# EAGLE library part G4-CHG-SOCKET (library greg)
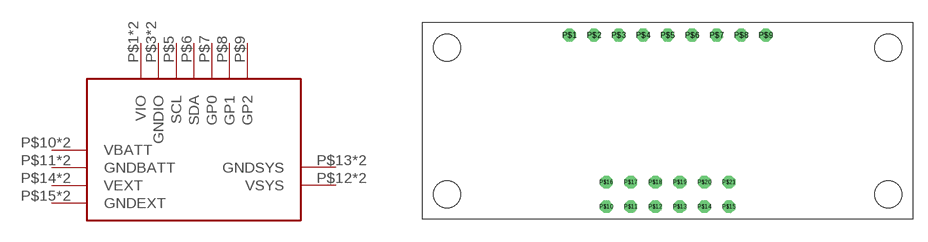
[diagram p9: symbol with the pads of G4-CHG-SOCKET; footprint G4-CHG-SOCKET]

Designator prefix -

## G4-CHG-SOCKETSTD  [G4-CHG-SOCKET]
P$1  VIO  sup
P$2  VIO  sup
P$3  GNDIO  sup
P$4  GNDIO  sup
P$5  SCL
P$6  SDA
P$7  GP0
P$8  GP1
P$9  GP2
P$10  VBATT  sup
P$11  GNDBATT  sup
P$12  VSYS  sup
P$13  GNDSYS  sup
P$14  VEXT  sup
P$15  GNDEXT  sup
P$16  VBATT  sup
P$17  GNDBATT  sup
P$18  VSYS  sup
P$19  GNDSYS  sup
P$20  VEXT  sup
P$21  GNDEXT  sup

## Footprint G4-CHG-SOCKET (pad centres in mm)
drill 0.8 octagon: P$1 -10.16,8.89; P$2 -7.62,8.89; P$3 -5.08,8.89; P$4 -2.54,8.89; P$5 0,8.89; P$6 2.54,8.89; P$7 5.08,8.89; P$8 7.62,8.89; P$9 10.16,8.89; P$10 -6.35,-8.89; P$11 -3.81,-8.89; P$12 -1.27,-8.89; P$13 1.27,-8.89; P$14 3.81,-8.89; P$15 6.35,-8.89; P$16 -6.35,-6.35; P$17 -3.81,-6.35; P$18 -1.27,-6.35; P$19 1.27,-6.35; P$20 3.81,-6.35; P$21 6.35,-6.35
hole 2.8 at -22.86,7.62
hole 2.8 at 22.86,-7.62
hole 2.8 at -22.86,-7.62
hole 2.8 at 22.86,7.62